# Altium schematic symbol library passive_chip_cap.SchLib: 17 symbols
Pins are listed as number, name and electrical type; pins without a type are passive.

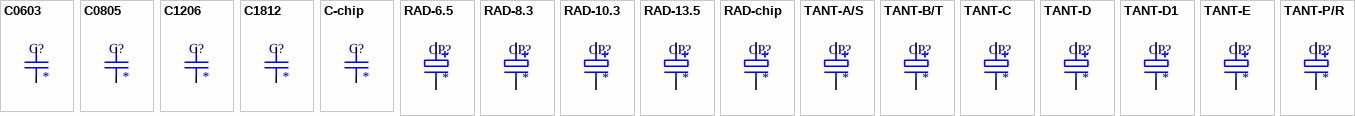
[diagram p0: symbols C0603 to TANT-P/R]

## C0603
designator C?
C0603; Name: Чип-конденсатор 0603; Voltage: *; LatestRevisionDate: 11-01-2018; Value: *
footprint CAP0603P (Chip Capacitor, 2-Leads, Body 1,60x0,80mm, IPC Medium Density)
pins: 1, 2

## C0805
designator C?
C0805; Name: Чип-конденсатор 0805; Voltage: *; LatestRevisionDate: 11-01-2018; Value: *
footprint CAP0805P (Chip Capacitor, 2-Leads, Body 2,00x1,25mm, IPC Medium Density)
pins: 1, 2

## C1206
designator C?
C1206; Name: Чип-конденсатор 1206; Voltage: *; LatestRevisionDate: 11-01-2018; Value: *
footprint CAP1206P (Chip Capacitor, 2-Leads, Body 3,20x1,60mm, IPC Medium Density)
pins: 1, 2

## C1812
designator C?
C1812; Name: Чип-конденсатор 1812; Voltage: *; LatestRevisionDate: 11-01-2018; Value: *
footprint CAP1812P (Chip Capacitor, 2-Leads, Body 4,50x3,20mm, IPC Medium Density)
pins: 1, 2

## C-chip
designator C?
chip capacitor NNxNN; Name: Чип-конденсатор; Voltage: *; LatestRevisionDate: 11-01-2018; Value: *
footprint CAP0201P (Chip Capacitor, 2-Leads, Body 0,60x0,30mm, IPC Medium Density)
footprint CAP0402P (Chip Capacitor, 2-Leads, Body 1,00x0,50mm, IPC Medium Density)
footprint CAP0603P (Chip Capacitor, 2-Leads, Body 1,60x0,80mm, IPC Medium Density)
footprint CAP0805P (Chip Capacitor, 2-Leads, Body 2,00x1,25mm, IPC Medium Density)
footprint CAP1206P (Chip Capacitor, 2-Leads, Body 3,20x1,60mm, IPC Medium Density)
footprint CAP1210P (Chip Capacitor, 2-Leads, Body 3,20x2,50mm, IPC Medium Density)
footprint CAP1812P (Chip Capacitor, 2-Leads, Body 4,50x3,20mm, IPC Medium Density)
footprint CAP2220P (Chip Capacitor, 2-Leads, Body 5,70x5,00mm, IPC Medium Density)
pins: 1, 2

## RAD-6.5
designator CP?
Radial 6.5x8.0; Name: *; Voltage: *; LatestRevisionDate: 11-01-2018; Value: *
footprint CAPR-6.5X8.0 (Molded Capacitor, 2-Leads, Body 6,60x6,60mm, IPC Medium Density)
pins: 1, 2

## RAD-8.3
designator CP?
Radial 8.3x10.2; Name: *; Voltage: *; LatestRevisionDate: 11-01-2018; Value: *
footprint CAPR-8.3X10.2 (Molded Capacitor, 2-Leads, Body 8,30x8,30mm, IPC Medium Density)
pins: 1, 2

## RAD-10.3
designator CP?
Radial 10.3x16.5; Name: *; Voltage: *; LatestRevisionDate: 11-01-2018; Value: *
footprint CAPR-10.3X16.5 (Molded Capacitor, 2-Leads, Body 10,30x10,30mm, IPC Medium Density)
pins: 1, 2

## RAD-13.5
designator CP?
Radial 13.5x13.2; Name: *; Voltage: *; LatestRevisionDate: 11-01-2018; Value: *
footprint CAPR-13.5X13.5 (Molded Capacitor, 2-Leads, Body 13,50x13,50mm, IPC Medium Density)
pins: 1, 2

## RAD-chip
designator CP?
Radial NxN; Name: *; Voltage: *; LatestRevisionDate: 11-01-2018; Value: *
footprint CAPR-3.5X5.4 (Molded Capacitor, 2-Leads, Body 3,30x3,30mm, IPC Medium Density)
footprint CAPR-4.3X5.4 (Molded Capacitor, 2-Leads, Body 4,30x4,30mm, IPC Medium Density)
footprint CAPR-5.3X5.4 (Molded Capacitor, 2-Leads, Body 5,30x5,30mm, IPC Medium Density)
footprint CAPR-6.5X8.0 (Molded Capacitor, 2-Leads, Body 6,60x6,60mm, IPC Medium Density)
footprint CAPR-8.3X6.2 (Molded Capacitor, 2-Leads, Body 8,30x8,30mm, IPC Medium Density)
footprint CAPR-8.3X10.2 (Molded Capacitor, 2-Leads, Body 8,30x8,30mm, IPC Medium Density)
footprint CAPR-10.3X10.2 (Molded Capacitor, 2-Leads, Body 10,30x10,30mm, IPC Medium Density)
footprint CAPR-10.3X16.5 (Molded Capacitor, 2-Leads, Body 10,30x10,30mm, IPC Medium Density)
footprint CAPR-10.3X16.5 (Molded Capacitor, 2-Leads, Body 10,30x10,30mm, IPC Medium Density)
footprint CAPR-13.5X13.5 (Molded Capacitor, 2-Leads, Body 13,50x13,50mm, IPC Medium Density)
footprint CAPR-17.0X21.5 (Molded Capacitor, 2-Leads, Body 17,00x17,00mm, IPC Medium Density)
footprint CAPR-19.0X21.5 (Molded Capacitor, 2-Leads, Body 19,00x19,00mm, IPC Medium Density)
pins: 1, 2

## TANT-A/S
designator CP?
Tantalum A/S 3.2x1.6; Name: Танталовый чип-конденсатор, А-корпус; Voltage: *; LatestRevisionDate: 11-01-2018; Value: *
footprint CAPT-AS/3216 (Molded Capacitor, 2-Leads, Body 3,20x1,65mm, IPC Medium Density)
pins: 1, 2

## TANT-B/T
designator CP?
Tantalum B/T 3.5x2.8; Name: Танталовый чип-конденсатор, B-корпус; Voltage: *; LatestRevisionDate: 11-01-2018; Value: *
footprint CAPT-BT/3528 (Molded Capacitor, 2-Leads, Body 3,50x2,85mm, IPC Medium Density)
pins: 1, 2

## TANT-C
designator CP?
Tantalum C 6.0x3.2; Name: Танталовый чип-конденсатор, C-корпус; Voltage: *; LatestRevisionDate: 11-01-2018; Value: *
footprint CAPT-C/6032 (Molded Capacitor, 2-Leads, Body 6,00x3,25mm, IPC Medium Density)
pins: 1, 2

## TANT-D
designator CP?
Tantalum D 7.3x4.3; Name: Танталовый чип-конденсатор, D-корпус; Voltage: *; LatestRevisionDate: 11-01-2018; Value: *
footprint CAPT-D/7343 (Molded Capacitor, 2-Leads, Body 7,30x4,35mm, IPC Medium Density)
pins: 1, 2

## TANT-D1
designator CP?
Tantalum D1 5.8x4.6; Name: Танталовый чип-конденсатор, D1-корпус; Voltage: *; LatestRevisionDate: 11-01-2018; Value: *
footprint CAPT-D1/5846 (Molded Capacitor, 2-Leads, Body 5,80x4,60mm, IPC Medium Density)
pins: 1, 2

## TANT-E
designator CP?
Tantalum E 7.3x4.3; Name: Танталовый чип-конденсатор, E-корпус; Voltage: *; LatestRevisionDate: 11-01-2018; Value: *
footprint CAPT-E/7343H (Molded Capacitor, 2-Leads, Body 7,30x4,35mm, IPC Medium Density)
pins: 1, 2

## TANT-P/R
designator CP?
Tantalum P/R 2.0x1.2; Name: Танталовый чип-конденсатор, R-корпус; Voltage: *; LatestRevisionDate: 11-01-2018; Value: *
footprint CAPT-PR/2012 (Molded Capacitor, 2-Leads, Body 2,05x1,30mm, IPC Medium Density)
pins: 1, 2